# EAGLE library part XR-567K (library exar)
TONE DECODER
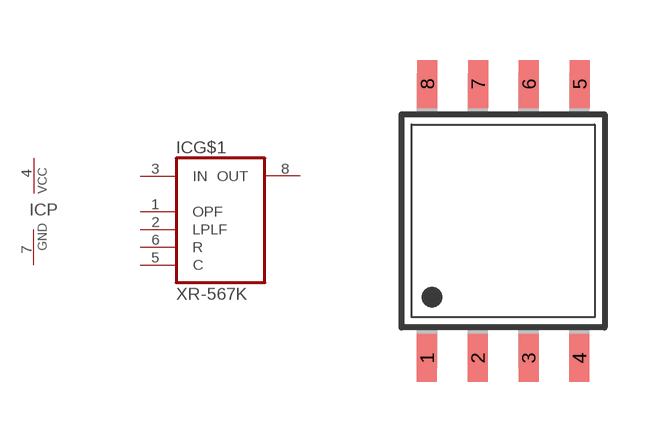
[diagram p73: symbol with the pads of JSOP-08; footprint JSOP-08]

Designator prefix IC; gates G$1=XR-567 P=PWRN

## XR-567K (OC_FARNELL: unknown; OC_NEWARK: unknown)  [JSOP-08]
1  G$1:OPF  in
2  G$1:LPLF  in
3  G$1:IN  in
4  P:VCC  pwr
5  G$1:C  in
6  G$1:R  in
7  P:GND  pwr
8  G$1:OUT  out

## Footprint JSOP-08 (pad centres in mm)
JEDEC Small Outline Package
smd 0.5 x 1.2: 1 -1.905,-3.429; 2 -0.635,-3.429; 3 0.635,-3.429; 4 1.905,-3.429; 5 1.913,3.429; 6 0.643,3.429; 7 -0.627,3.429; 8 -1.897,3.429